# Altium schematic symbol library Schlib3.SchLib: 16 symbols
Pins are listed as number, name and electrical type; pins without a type are passive.

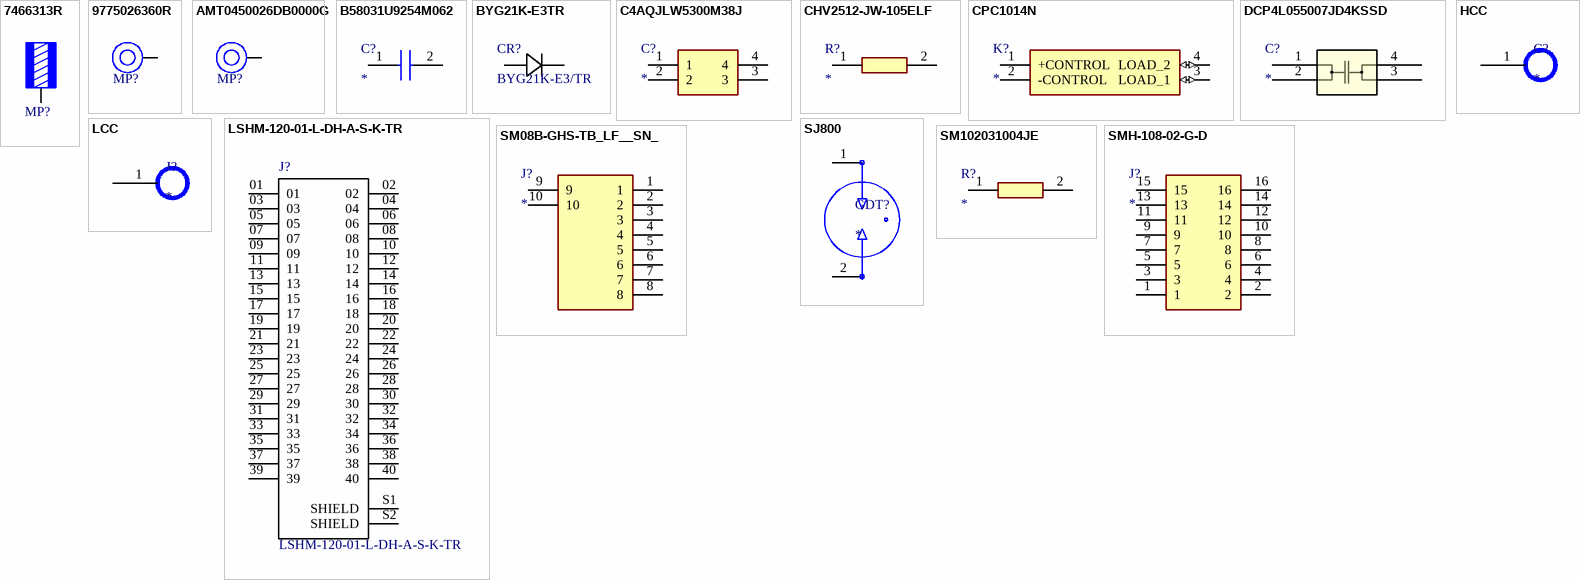
[diagram p0: symbols 7466313R to SMH-108-02-G-D]

## 7466313R
designator MP?, comment M3  (value not drawn)
WP-SMRA REDCUBE SMT Right Angled with pins, M3, 50A; Manufacturer Part Number: 7466313R; Manufacturer: Wurth Elektronik; Surface: Tin; ComponentLink1Description: Website Link; ComponentLink1URL: https://www.we-online.com/redexpert/article/7466313R?ad; ComponentLink2Description: Datasheet Link; ComponentLink2URL: https://www.we-online.com/redexpert/spec/7466313R?ad; Category: REDCUBE SMT; Match Code: WP-SMRA; Mount: Surface Mount; Operating Temperature Max: 150°C; Operating Temperature Min: -55°C; Packaging: Tape and Reel; Height: 7mm; Material: Brass; Rated Current: 50A; Thread Size: M3
footprint 7466313 (SMD Terminal Right Angled with Pins, Thread M3, Length 5.5mm)
pins: 1

## 9775026360R
designator MP?, comment M3 x 2.6mm  (value not drawn)
WA-SMSR SMT Steel Spacer Reverse, M3 x 2.6mm; Manufacturer Part Number: 9775026360R; Manufacturer: Wurth Elektronik; Inside Diameter: 4.2mm; Outside Diameter: 6mm; Surface: Tin; ComponentLink1Description: Website Link; ComponentLink1URL: https://www.we-online.com/redexpert/article/9775026360R?ad; ComponentLink2Description: Datasheet Link; ComponentLink2URL: https://www.we-online.com/redexpert/spec/9775026360R?ad; Category: SMT Spacers; Match Code: WA-SMSR; Mount: Surface Mount; Operating Temperature Max: 150°C; Operating Temperature Min: -55°C; Packaging: Tape and Reel; Material: Steel; Pin Length: 2.6mm; Thread Size: M3
footprint 9775026360
pins: 1

## AMT0450026DB0000G
designator MP?
Manufacturer Part Number: AMT0450026DB0000G; Inside Diameter: 4.2mm; Outside Diameter: 6mm; Pin Length: 2.6mm; Surface: Tin; Thread Size: M3; ComponentLink1Description: Website Link; ComponentLink1URL: https://www.we-online.com/redexpert/article/9775026360R?ad; ComponentLink2Description: Datasheet Link; ComponentLink2URL: https://www.we-online.com/redexpert/spec/9775026360R?ad; Mount: Surface Mount; Operating Temperature Max: 150°C; Operating Temperature Min: -55°C; Packaging: Tape and Reel; Material: Steel
footprint AMT0450026DB0000G
pins: 1

## B58031U9254M062
designator C?
Capacitor; Manufacturer_Name: TDK; Manufacturer_Part_Number: B58031U9254M062; Datasheet Link: https://product.tdk.com/system/files/dam/doc/product/capacitor/ceramic/ceralink/data_sheet/20/10/ds/b58031_lp.pdf; Height: 4.5mm; Mouser Part Number: 871-B58031U9254M062; Mouser Price/Stock: https://www.mouser.co.uk/ProductDetail/EPCOS-TDK/B58031U9254M062?qs=Mv7BduZupUir5egwM6Ifng%3D%3D; Arrow Part Number: B58031U9254M062; Arrow Price/Stock: https://www.arrow.com/en/products/b58031u9254m062/tdk?region=europe
footprint B58031U9254M062
pins: 1, 2

## BYG21K-E3TR
designator CR?, comment BYG21K-E3/TR
1.5A,800V,120nS FS AVALANCHE SMD; Manufacturer_Name: Vishay; Copyright: Copyright (C) 2025 Ultra Librarian. All rights reserved.; Manufacturer_Part_Number: BYG21K-E3/TR; Datasheet: https://www.vishay.com/doc?88961
footprint DO-214AC_VIS
pins: 1, 2

## C4AQJLW5300M38J
designator C?
Capacitor; Manufacturer_Name: KEMET; Manufacturer_Part_Number: C4AQJLW5300M38J; Datasheet Link: https://content.kemet.com/datasheets/KEM_F3125_C4AQ_M.pdf; Height: 25.2mm; Mouser Part Number: 80-C4AQJLW5300M38J; Mouser Price/Stock: https://www.mouser.co.uk/ProductDetail/KEMET/C4AQJLW5300M38J?qs=81r%252BiQLm7BQPDIKgnvCGAA%3D%3D
footprint C4AQJLW5300M38J
pins: 1, 2, 3, 4

## CHV2512-JW-105ELF
designator R?
Resistor; Manufacturer_Name: Bourns; Manufacturer_Part_Number: CHV2512-JW-105ELF; Datasheet Link: https://componentsearchengine.com/Datasheets/1/CHV2512-JW-107ELF.pdf; Height: 0.75mm; Mouser Part Number: 652-CHV2512JW105ELF; Mouser Price/Stock: https://www.mouser.co.uk/ProductDetail/Bourns/CHV2512-JW-105ELF?qs=Y39dXtdJQR3hOiRXwW8xyA%3D%3D; Arrow Part Number: CHV2512-JW-105ELF; Arrow Price/Stock: https://www.arrow.com/en/products/chv2512-jw-105elf/bourns
footprint RESC6432X75N
pins: 1, 2

## CPC1014N
designator K?
Relay or Contactor; Manufacturer_Name: LITTELFUSE; Manufacturer_Part_Number: CPC1014N; Datasheet Link: https://datasheet.datasheetarchive.com/originals/distributors/Datasheets-DGA15/691004.pdf; Height: 2.184mm; Mouser Part Number: 849-CPC1014N; Mouser Price/Stock: https://www.mouser.co.uk/ProductDetail/IXYS-Integrated-Circuits/CPC1014N?qs=OpMkDkHXivPNK7%252BhCXwefA%3D%3D; Arrow Part Number: CPC1014N; Arrow Price/Stock: https://www.arrow.com/en/products/cpc1014n/littelfuse?utm_currency=USD&region=europe
footprint SOP254P610X218-4N
pins: 1 +CONTROL (power), 2 -CONTROL (power), 3 LOAD_1 (io), 4 LOAD_2 (io)

## DCP4L055007JD4KSSD
designator C?
No Description Available; Mfr_Name: Wima; RefDes: RefDes; Type: Type
footprint DCP4_35.0WX50.0HX41.5L_4PIN_WIM
pins: 1, 2, 3, 4

## HCC
designator C?
footprint 6mm Pad
pins: 1

## LCC
designator J?
footprint PAD 3MM
pins: 1

## LSHM-120-01-L-DH-A-S-K-TR
designator J?
Value: *
footprint *SAMTEC_LSHM-120-01-L-DH-A-S-K-TR_LSHM-120-01-L-DH-A-S-K-TR(Primary)
pins: 01, 02, 03, 04, 05, 06, 07, 08, 09, 10, 11, 12, 13, 14, 15, 16, 17, 18, 19, 20, 21, 22, 23, 24, 25, 26, 27, 28, 29, 30, 31, 32, 33, 34, 35, 36, 37, 38, 39, 40, S1 SHIELD, S2 SHIELD

## SJ800
designator GDT?
Gas Discharge Tube; Manufacturer_Name: LITTELFUSE; Manufacturer_Part_Number: SJ800; Datasheet Link: https://www.littelfuse.com/assetdocs/gas-discharge-tubes-sj-datasheet?assetguid=53b7eae5-00a8-4e77-9ff5-6f0a5c35dc61; Height: 3.5mm
footprint SJ1000
pins: 1, 2

## SM08B-GHS-TB_LF__SN_
designator J?
Connector; Manufacturer_Name: JST (JAPAN SOLDERLESS TERMINALS); Manufacturer_Part_Number: SM08B-GHS-TB(LF)(SN); Datasheet Link: http://www.jst-mfg.com/product/pdf/eng/eGH.pdf; Height: 4.05mm; Mouser Part Number: N/A; Mouser Price/Stock: https://www.mouser.co.uk/ProductDetail/JST-Commercial/SM08B-GHS-TBLFSN?qs=IKkN%2F947nfC94HDZLTJQXQ%3D%3D; Arrow Part Number: SM08B-GHS-TB(LF)(SN); Arrow Price/Stock: https://www.arrow.com/en/products/sm08b-ghs-tb-lf-sn/jst-manufacturing?utm_currency=USD&region=europe
footprint SM08BGHSTBLFSN
pins: 1, 2, 3, 4, 5, 6, 7, 8, 9, 10

## SM102031004JE
designator R?
Resistor; Manufacturer_Name: Ohmite; Manufacturer_Part_Number: SM102031004JE; Datasheet Link: https://www.ohmite.com/assets/docs/res_slimmox.pdf?r=false; Height: 8.64mm
footprint SM102031004JE
pins: 1, 2

## SMH-108-02-G-D
designator J?
Connector; Manufacturer_Name: SAMTEC; Manufacturer_Part_Number: SMH-108-02-G-D; Datasheet Link: https://componentsearchengine.com/Datasheets/1/SMH-108-02-G-D.pdf; Height: 4.95mm; Mouser Part Number: 200-SMH10802GD; Mouser Price/Stock: https://www.mouser.co.uk/ProductDetail/Samtec/SMH-108-02-G-D/?qs=rU5fayqh%252BE0mXLlNq9vDhQ%3D%3D; Arrow Part Number: SMH-108-02-G-D; Arrow Price/Stock: https://www.arrow.com/en/products/smh-108-02-g-d/samtec?region=nac
footprint SMH10802GD
pins: 1, 2, 3, 4, 5, 6, 7, 8, 9, 10, 11, 12, 13, 14, 15, 16